# Altium schematic symbol library Schlib1.SchLib: 3 symbols
Pins are listed as number, name and electrical type; pins without a type are passive.

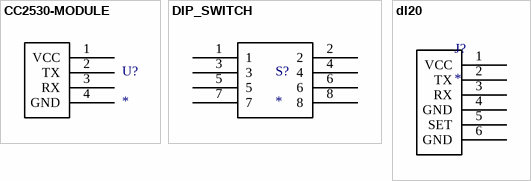
[diagram p0: symbols CC2530-MODULE to dl20]

## CC2530-MODULE
designator U?
footprint CC2530
pins: 1 VCC, 2 TX, 3 RX, 4 GND

## DIP_SWITCH
designator S?
footprint DIP_SWITCH_4_SPST (SWITCH SLIDE DIP SPST 25MA 24V)
pins: 1, 2, 3, 4, 5, 6, 7, 8

## dl20
designator J?
footprint DL20
pins: 1 VCC (power), 2 TX, 3 RX, 4 GND (power), 5 SET, 6 GND (power)